# EAGLE library part STM32F405XX (library stm32f)
Features ? Core: ARM 32-bit Cortex?-M4 CPU with FPU, Adaptive real-time accelerator (ART Accelerator?) allowing 0-wait state execution from Flash memory, frequency up to 168 MHz, memory protection unit, 210 DMIPS/ 1.25 DMIPS/MHz (Dhrystone 2.1), and DSP instructions ? Memories ¨C Up to 1 Mbyte of Flash memory ¨C Up to 192+4 Kbytes of SRAM including 64- Kbyte of CCM (core coupled memory) data RAM ¨C Flexible static memory controller supporting Compact Flash, SRAM, PSRAM, NOR and NAND memories ? LCD parallel interface, 8080/6800 modes ? Clock, reset and supply management ¨C 1.8 V to 3.6 V application supply and I/Os ¨C POR, PDR, PVD and BOR ¨C 4-to-26 MHz crystal oscillator ¨C Internal 16 MHz factory-trimmed RC (1% accuracy) ¨C 32 kHz oscillator for RTC with calibration ¨C Internal 32 kHz RC with calibration ? Low power ¨C Sleep, Stop and Standby modes ¨C VBAT supply for RTC, 20¡Á32 bit backup registers + optional 4 KB backup SRAM ? 3¡Á12-bit, 2.4 MSPS A/D converters: up to 24 channels and 7.2 MSPS in triple interleaved mode ? 2¡Á12-bit D/A converters ? General-purpose DMA: 16-stream DMA controller with FIFOs and burst support ? Up to 17 timers: up to twelve 16-bit and two 32- bit timers up to 168 MHz, each with up to 4 IC/OC/PWM or pulse counter and quadrature (incremental) encoder input ? Debug mode ¨C Serial wire debug (SWD) & JTAG interfaces ¨C Cortex-M4 Embedded Trace Macrocell? ? Up to 140 I/O ports with interrupt capability ¨C Up to 136 fast I/Os up to 84 MHz ¨C Up to 138 5 V-tolerant I/Os ? Up to 15 communication interfaces ¨C Up to 3 ¡Á I2C interfaces (SMBus/PMBus) ¨C Up to 4 USARTs/2 UARTs (10.5 Mbit/s, ISO 7816 interface, LIN, IrDA, modem control) ¨C Up to 3 SPIs (42 Mbits/s), 2 with muxed full-duplex I2S to achieve audio class accuracy via internal audio PLL or external clock ¨C 2 ¡Á CAN interfaces (2.0B Active) ¨C SDIO interface ? Advanced connectivity ¨C USB 2.0 full-speed device/host/OTG controller with on-chip PHY ¨C USB 2.0 high-speed/full-speed device/host/OTG controller with dedicated DMA, on-chip full-speed PHY and ULPI ¨C 10/100 Ethernet MAC with dedicated DMA: supports IEEE 1588v2 hardware, MII/RMII ? 8- to 14-bit parallel camera interface up to 54 Mbytes/s ? True random number generator ? CRC calculation unit ? 96-bit unique ID ? RTC: subsecond accuracy, hardware calendar
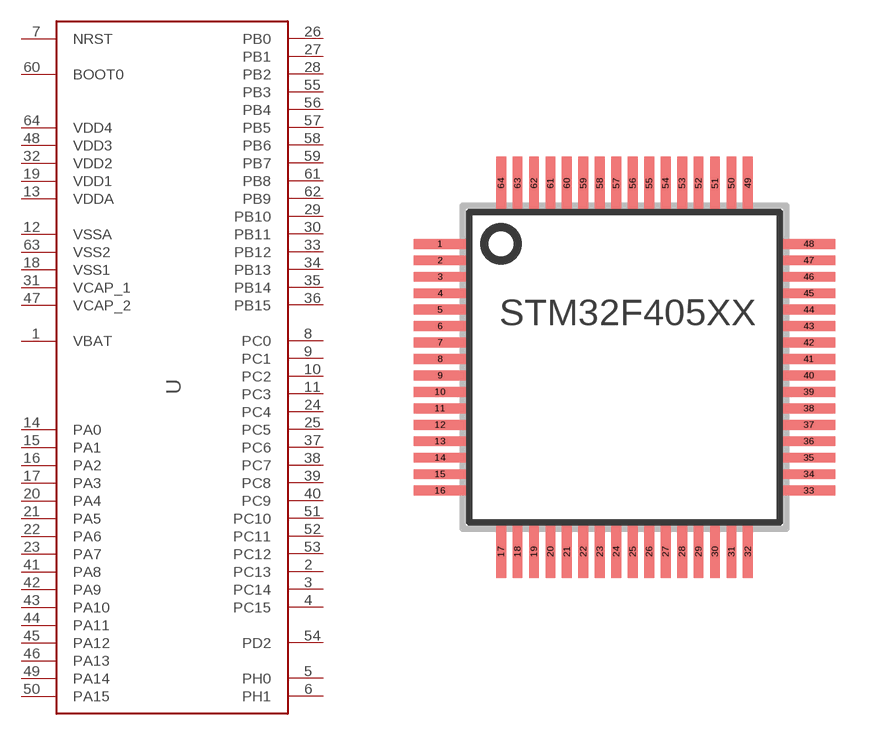
[diagram p0: symbol with the pads of LQFP64; footprint LQFP64]

Designator prefix -

## STM32F405XXSTM32F405XX  [LQFP64]
1  VBAT  pwr
2  PC13
3  PC14
4  PC15
5  PH0
6  PH1
7  NRST
8  PC0
9  PC1
10  PC2
11  PC3
12  VSSA  pwr
13  VDDA  pwr
14  PA0
15  PA1
16  PA2
17  PA3
18  VSS1  pwr
19  VDD1  pwr
20  PA4
21  PA5
22  PA6
23  PA7
24  PC4
25  PC5
26  PB0
27  PB1
28  PB2
29  PB10
30  PB11
31  VCAP_1  pwr
32  VDD2  pwr
33  PB12
34  PB13
35  PB14
36  PB15
37  PC6
38  PC7
39  PC8
40  PC9
41  PA8
42  PA9
43  PA10
44  PA11
45  PA12
46  PA13
47  VCAP_2  pwr
48  VDD3  pwr
49  PA14
50  PA15
51  PC10
52  PC11
53  PC12
54  PD2
55  PB3
56  PB4
57  PB5
58  PB6
59  PB7
60  BOOT0
61  PB8
62  PB9
63  VSS2  pwr
64  VDD4  pwr

## Footprint LQFP64 (pad centres in mm)
smd 1.6 x 0.3: 1 -5.6,3.75; 2 -5.6,3.25; 3 -5.6,2.75; 4 -5.6,2.25; 5 -5.6,1.75; 6 -5.6,1.25; 7 -5.6,0.75; 8 -5.6,0.25; 9 -5.6,-0.25; 10 -5.6,-0.75; 11 -5.6,-1.25; 12 -5.6,-1.75; 13 -5.6,-2.25; 14 -5.6,-2.75; 15 -5.6,-3.25; 16 -5.6,-3.75; 33 5.6,-3.75; 34 5.6,-3.25; 35 5.6,-2.75; 36 5.6,-2.25; 37 5.6,-1.75; 38 5.6,-1.25; 39 5.6,-0.75; 40 5.6,-0.25; 41 5.6,0.25; 42 5.6,0.75; 43 5.6,1.25; 44 5.6,1.75; 45 5.6,2.25; 46 5.6,2.75; 47 5.6,3.25; 48 5.6,3.75
smd 0.3 x 1.6: 17 -3.75,-5.6; 18 -3.25,-5.6; 19 -2.75,-5.6; 20 -2.25,-5.6; 21 -1.75,-5.6; 22 -1.25,-5.6; 23 -0.75,-5.6; 24 -0.25,-5.6; 25 0.25,-5.6; 26 0.75,-5.6; 27 1.25,-5.6; 28 1.75,-5.6; 29 2.25,-5.6; 30 2.75,-5.6; 31 3.25,-5.6; 32 3.75,-5.6; 49 3.75,5.6; 50 3.25,5.6; 51 2.75,5.6; 52 2.25,5.6; 53 1.75,5.6; 54 1.25,5.6; 55 0.75,5.6; 56 0.25,5.6; 57 -0.25,5.6; 58 -0.75,5.6; 59 -1.25,5.6; 60 -1.75,5.6; 61 -2.25,5.6; 62 -2.75,5.6; 63 -3.25,5.6; 64 -3.75,5.6